# EAGLE library part QTH-030-XX-X-D-A (library QTH-030-XX-X-D-A)
HIGH SPEED TERMINAL STRIP, .5mm PITCH, 60 PINS. MANUFACTURER:SAMTEC.
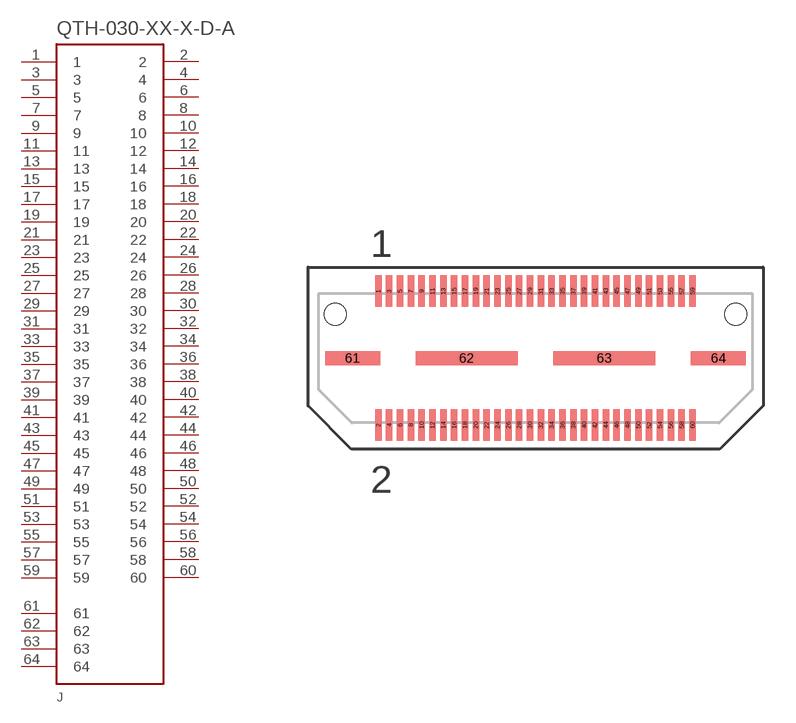
[diagram p0: symbol with the pads of QTH-030-XX-X-D-A; footprint QTH-030-XX-X-D-A]

Designator prefix J

## QTH-030-XX-X-D-A  [QTH-030-XX-X-D-A]
1  1
2  2
3  3
4  4
5  5
6  6
7  7
8  8
9  9
10  10
11  11
12  12
13  13
14  14
15  15
16  16
17  17
18  18
19  19
20  20
21  21
22  22
23  23
24  24
25  25
26  26
27  27
28  28
29  29
30  30
31  31
32  32
33  33
34  34
35  35
36  36
37  37
38  38
39  39
40  40
41  41
42  42
43  43
44  44
45  45
46  46
47  47
48  48
49  49
50  50
51  51
52  52
53  53
54  54
55  55
56  56
57  57
58  58
59  59
60  60
61  61  pwr
62  62  pwr
63  63  pwr
64  64  pwr

## Footprint QTH-030-XX-X-D-A (pad centres in mm)
HIGH SPEED TERMINAL STRIP, .5mm PITCH, 60 PINS. MANUFACTURER:SAMTEC.
smd 0.3 x 1.45: 1 -7.255,3.09; 2 -7.255,-3.09; 3 -6.755,3.09; 4 -6.755,-3.09; 5 -6.255,3.09; 6 -6.255,-3.09; 7 -5.755,3.09; 8 -5.755,-3.09; 9 -5.255,3.09; 10 -5.255,-3.09; 11 -4.755,3.09; 12 -4.755,-3.09; 13 -4.255,3.09; 14 -4.255,-3.09; 15 -3.755,3.09; 16 -3.755,-3.09; 17 -3.255,3.09; 18 -3.255,-3.09; 19 -2.755,3.09; 20 -2.755,-3.09; 21 -2.255,3.09; 22 -2.255,-3.09; 23 -1.755,3.09; 24 -1.755,-3.09; 25 -1.255,3.09; 26 -1.255,-3.09; 27 -0.755,3.09; 28 -0.755,-3.09; 29 -0.255,3.09; 30 -0.255,-3.09; 31 0.245,3.09; 32 0.245,-3.09; 33 0.745,3.09; 34 0.745,-3.09; 35 1.245,3.09; 36 1.245,-3.09; 37 1.745,3.09; 38 1.745,-3.09; 39 2.245,3.09; 40 2.245,-3.09; 41 2.745,3.09; 42 2.745,-3.09; 43 3.245,3.09; 44 3.245,-3.09; 45 3.745,3.09; 46 3.745,-3.09; 47 4.245,3.09; 48 4.245,-3.09; 49 4.745,3.09; 50 4.745,-3.09; 51 5.245,3.09; 52 5.245,-3.09; 53 5.745,3.09; 54 5.745,-3.09; 55 6.245,3.09; 56 6.245,-3.09; 57 6.745,3.09; 58 6.745,-3.09; 59 7.245,3.09; 60 7.245,-3.09
smd 2.54 x 0.64: 61 -8.445,0; 64 8.445,0
smd 4.7 x 0.64: 62 -3.175,0; 63 3.175,0
hole 1.02 at -9.24,2.03
hole 1.02 at 9.24,2.03